# EAGLE library part MPU9250 (library shoe)
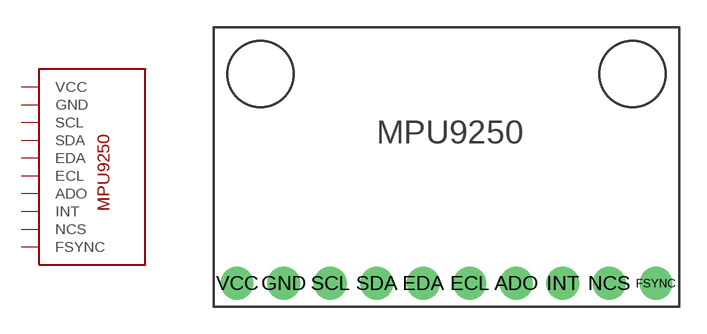
[diagram p0: symbol with the pads of MPU9250; footprint MPU9250]

Designator prefix MPU

## MPU9250  [MPU9250]
ADO  ADO
ECL  ECL
EDA  EDA
FSYNC  FSYNC
GND  GND
INT  INT
NCS  NCS
SCL  SCL
SDA  SDA
VCC  VCC

## Footprint MPU9250 (pad centres in mm)
drill 1.016 pad 1.778: ADO 3.81,-6.35; ECL 1.27,-6.35; EDA -1.27,-6.35; FSYNC 11.43,-6.35; GND -8.89,-6.35; INT 6.35,-6.35; NCS 8.89,-6.35; SCL -6.35,-6.35; SDA -3.81,-6.35; VCC -11.43,-6.35